# Altium footprint library IPC-SM-782 Section 14.1.2 PBGA 1.27mm.PcbLib: 49 footprints (part 3 of 11)
Each footprint in its own frame and in the unit in brackets; x right, y up, seen from the top. Pads: shape width x height; smd on the part's side, far side on the other; paste and mask are expansions set on the pad; w line width, h text height; cw(c..) or ccw(c..) is an arc to the next point about the centre after c.
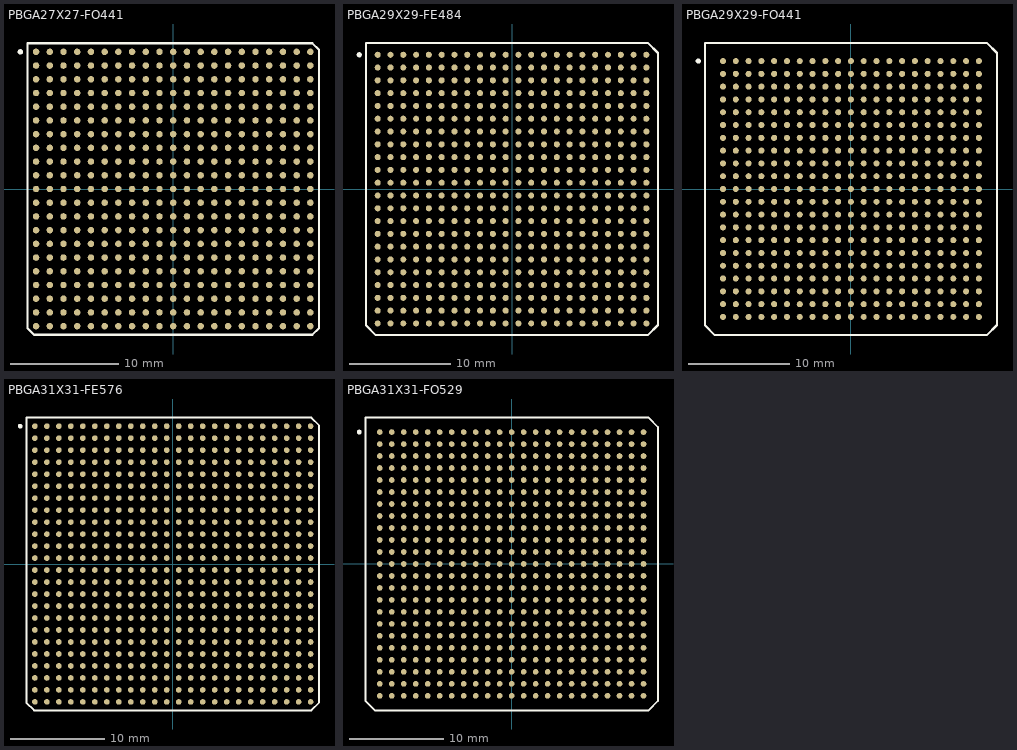
[diagram p2: the footprints below, top view; thin cyan lines are the x and y axes]

## PBGA27X27-FO441 [mm] "BGA; 441 Balls; Body 27 x 27 mm; Pitch 1.27 mm"
height 3.5
pads (441):
  round 0.6 smd: A1(-12.7,12.7) A2(-11.43,12.7) A3(-10.16,12.7) A4(-8.89,12.7) A5(-7.62,12.7) A6(-6.35,12.7) A7(-5.08,12.7) A8(-3.81,12.7) A9(-2.54,12.7) A10(-1.27,12.7) A11(0,12.7) A12(1.27,12.7) A13(2.54,12.7) A14(3.81,12.7) A15(5.08,12.7) A16(6.35,12.7) A17(7.62,12.7) A18(8.89,12.7) A19(10.16,12.7) A20(11.43,12.7) A21(12.7,12.7) AA1(-12.7,-12.7) AA2(-11.43,-12.7) AA3(-10.16,-12.7) AA4(-8.89,-12.7) AA5(-7.62,-12.7) AA6(-6.35,-12.7) AA7(-5.08,-12.7) AA8(-3.81,-12.7) AA9(-2.54,-12.7) AA10(-1.27,-12.7) AA11(0,-12.7) AA12(1.27,-12.7) AA13(2.54,-12.7) AA14(3.81,-12.7) AA15(5.08,-12.7) AA16(6.35,-12.7) AA17(7.62,-12.7) AA18(8.89,-12.7) AA19(10.16,-12.7) AA20(11.43,-12.7) AA21(12.7,-12.7) B1(-12.7,11.43) B2(-11.43,11.43) B3(-10.16,11.43) B4(-8.89,11.43) B5(-7.62,11.43) B6(-6.35,11.43) B7(-5.08,11.43) B8(-3.81,11.43) B9(-2.54,11.43) B10(-1.27,11.43) B11(0,11.43) B12(1.27,11.43) B13(2.54,11.43) B14(3.81,11.43) B15(5.08,11.43) B16(6.35,11.43) B17(7.62,11.43) B18(8.89,11.43) B19(10.16,11.43) B20(11.43,11.43) B21(12.7,11.43) C1(-12.7,10.16) C2(-11.43,10.16) C3(-10.16,10.16) C4(-8.89,10.16) C5(-7.62,10.16) C6(-6.35,10.16) C7(-5.08,10.16) C8(-3.81,10.16) C9(-2.54,10.16) C10(-1.27,10.16) C11(0,10.16) C12(1.27,10.16) C13(2.54,10.16) C14(3.81,10.16) C15(5.08,10.16) C16(6.35,10.16) C17(7.62,10.16) C18(8.89,10.16) C19(10.16,10.16) C20(11.43,10.16) C21(12.7,10.16) D1(-12.7,8.89) D2(-11.43,8.89) D3(-10.16,8.89) D4(-8.89,8.89) D5(-7.62,8.89) D6(-6.35,8.89) D7(-5.08,8.89) D8(-3.81,8.89) D9(-2.54,8.89) D10(-1.27,8.89) D11(0,8.89) D12(1.27,8.89) D13(2.54,8.89) D14(3.81,8.89) D15(5.08,8.89) D16(6.35,8.89) D17(7.62,8.89) D18(8.89,8.89) D19(10.16,8.89) D20(11.43,8.89) D21(12.7,8.89) E1(-12.7,7.62) E2(-11.43,7.62) E3(-10.16,7.62) E4(-8.89,7.62) E5(-7.62,7.62) E6(-6.35,7.62) E7(-5.08,7.62) E8(-3.81,7.62) E9(-2.54,7.62) E10(-1.27,7.62) E11(0,7.62) E12(1.27,7.62) E13(2.54,7.62) E14(3.81,7.62) E15(5.08,7.62) E16(6.35,7.62) E17(7.62,7.62) E18(8.89,7.62) E19(10.16,7.62) E20(11.43,7.62) E21(12.7,7.62) F1(-12.7,6.35) F2(-11.43,6.35) F3(-10.16,6.35) F4(-8.89,6.35) F5(-7.62,6.35) F6(-6.35,6.35) F7(-5.08,6.35) F8(-3.81,6.35) F9(-2.54,6.35) F10(-1.27,6.35) F11(0,6.35) F12(1.27,6.35) F13(2.54,6.35) F14(3.81,6.35) F15(5.08,6.35) F16(6.35,6.35) F17(7.62,6.35) F18(8.89,6.35) F19(10.16,6.35) F20(11.43,6.35) F21(12.7,6.35) G1(-12.7,5.08) G2(-11.43,5.08) G3(-10.16,5.08) G4(-8.89,5.08) G5(-7.62,5.08) G6(-6.35,5.08) G7(-5.08,5.08) G8(-3.81,5.08) G9(-2.54,5.08) G10(-1.27,5.08) G11(0,5.08) G12(1.27,5.08) G13(2.54,5.08) G14(3.81,5.08) G15(5.08,5.08) G16(6.35,5.08) G17(7.62,5.08) G18(8.89,5.08) G19(10.16,5.08) G20(11.43,5.08) G21(12.7,5.08) H1(-12.7,3.81) H2(-11.43,3.81) H3(-10.16,3.81) H4(-8.89,3.81) H5(-7.62,3.81) H6(-6.35,3.81) H7(-5.08,3.81) H8(-3.81,3.81) H9(-2.54,3.81) H10(-1.27,3.81) H11(0,3.81) H12(1.27,3.81) H13(2.54,3.81) H14(3.81,3.81) H15(5.08,3.81) H16(6.35,3.81) H17(7.62,3.81) H18(8.89,3.81) H19(10.16,3.81) H20(11.43,3.81) H21(12.7,3.81) J1(-12.7,2.54) J2(-11.43,2.54) J3(-10.16,2.54) J4(-8.89,2.54) J5(-7.62,2.54) J6(-6.35,2.54) J7(-5.08,2.54) J8(-3.81,2.54) J9(-2.54,2.54) J10(-1.27,2.54) J11(0,2.54) J12(1.27,2.54) J13(2.54,2.54) J14(3.81,2.54) J15(5.08,2.54) J16(6.35,2.54) J17(7.62,2.54) J18(8.89,2.54) J19(10.16,2.54) J20(11.43,2.54) J21(12.7,2.54) K1(-12.7,1.27) K2(-11.43,1.27) K3(-10.16,1.27) K4(-8.89,1.27) K5(-7.62,1.27) K6(-6.35,1.27) K7(-5.08,1.27) K8(-3.81,1.27) K9(-2.54,1.27) K10(-1.27,1.27) K11(0,1.27) K12(1.27,1.27) K13(2.54,1.27) K14(3.81,1.27) K15(5.08,1.27) K16(6.35,1.27) K17(7.62,1.27) K18(8.89,1.27) K19(10.16,1.27) K20(11.43,1.27) K21(12.7,1.27) L1(-12.7,0) L2(-11.43,0) L3(-10.16,0) L4(-8.89,0) L5(-7.62,0) L6(-6.35,0) L7(-5.08,0) L8(-3.81,0) L9(-2.54,0) L10(-1.27,0) L11(0,0) L12(1.27,0) L13(2.54,0) L14(3.81,0) L15(5.08,0) L16(6.35,0) L17(7.62,0) L18(8.89,0) L19(10.16,0) L20(11.43,0) L21(12.7,0) M1(-12.7,-1.27) M2(-11.43,-1.27) M3(-10.16,-1.27) M4(-8.89,-1.27) M5(-7.62,-1.27) M6(-6.35,-1.27) M7(-5.08,-1.27) M8(-3.81,-1.27) M9(-2.54,-1.27) M10(-1.27,-1.27) M11(0,-1.27) M12(1.27,-1.27) M13(2.54,-1.27) M14(3.81,-1.27) M15(5.08,-1.27) M16(6.35,-1.27) M17(7.62,-1.27) M18(8.89,-1.27) M19(10.16,-1.27) M20(11.43,-1.27) M21(12.7,-1.27) N1(-12.7,-2.54) N2(-11.43,-2.54) N3(-10.16,-2.54) N4(-8.89,-2.54) N5(-7.62,-2.54) N6(-6.35,-2.54) N7(-5.08,-2.54) N8(-3.81,-2.54) N9(-2.54,-2.54) N10(-1.27,-2.54) N11(0,-2.54) N12(1.27,-2.54) N13(2.54,-2.54) N14(3.81,-2.54) N15(5.08,-2.54) N16(6.35,-2.54) N17(7.62,-2.54) N18(8.89,-2.54) N19(10.16,-2.54) N20(11.43,-2.54) N21(12.7,-2.54) P1(-12.7,-3.81) P2(-11.43,-3.81) P3(-10.16,-3.81) P4(-8.89,-3.81) P5(-7.62,-3.81) P6(-6.35,-3.81) P7(-5.08,-3.81) P8(-3.81,-3.81) P9(-2.54,-3.81) P10(-1.27,-3.81) P11(0,-3.81) P12(1.27,-3.81) P13(2.54,-3.81) P14(3.81,-3.81) P15(5.08,-3.81) P16(6.35,-3.81) P17(7.62,-3.81) P18(8.89,-3.81) P19(10.16,-3.81) P20(11.43,-3.81) P21(12.7,-3.81) R1(-12.7,-5.08) R2(-11.43,-5.08) R3(-10.16,-5.08) R4(-8.89,-5.08) R5(-7.62,-5.08) R6(-6.35,-5.08) R7(-5.08,-5.08) R8(-3.81,-5.08) R9(-2.54,-5.08) R10(-1.27,-5.08) R11(0,-5.08) R12(1.27,-5.08) R13(2.54,-5.08) R14(3.81,-5.08) R15(5.08,-5.08) R16(6.35,-5.08) R17(7.62,-5.08) R18(8.89,-5.08) R19(10.16,-5.08) R20(11.43,-5.08) R21(12.7,-5.08) T1(-12.7,-6.35) T2(-11.43,-6.35) T3(-10.16,-6.35) T4(-8.89,-6.35) T5(-7.62,-6.35) T6(-6.35,-6.35) T7(-5.08,-6.35) T8(-3.81,-6.35) T9(-2.54,-6.35) T10(-1.27,-6.35) T11(0,-6.35) T12(1.27,-6.35) T13(2.54,-6.35) T14(3.81,-6.35) T15(5.08,-6.35) T16(6.35,-6.35) T17(7.62,-6.35) T18(8.89,-6.35) T19(10.16,-6.35) T20(11.43,-6.35) T21(12.7,-6.35) U1(-12.7,-7.62) U2(-11.43,-7.62) U3(-10.16,-7.62) U4(-8.89,-7.62) U5(-7.62,-7.62) U6(-6.35,-7.62) U7(-5.08,-7.62) U8(-3.81,-7.62) U9(-2.54,-7.62) U10(-1.27,-7.62) U11(0,-7.62) U12(1.27,-7.62) U13(2.54,-7.62) U14(3.81,-7.62) U15(5.08,-7.62) U16(6.35,-7.62) U17(7.62,-7.62) U18(8.89,-7.62) U19(10.16,-7.62) U20(11.43,-7.62) U21(12.7,-7.62) V1(-12.7,-8.89) V2(-11.43,-8.89) V3(-10.16,-8.89) V4(-8.89,-8.89) V5(-7.62,-8.89) V6(-6.35,-8.89) V7(-5.08,-8.89) V8(-3.81,-8.89) V9(-2.54,-8.89) V10(-1.27,-8.89) V11(0,-8.89) V12(1.27,-8.89) V13(2.54,-8.89) V14(3.81,-8.89) V15(5.08,-8.89) V16(6.35,-8.89) V17(7.62,-8.89) V18(8.89,-8.89) V19(10.16,-8.89) V20(11.43,-8.89) V21(12.7,-8.89) W1(-12.7,-10.16) W2(-11.43,-10.16) W3(-10.16,-10.16) W4(-8.89,-10.16) W5(-7.62,-10.16) W6(-6.35,-10.16) W7(-5.08,-10.16) W8(-3.81,-10.16) W9(-2.54,-10.16) W10(-1.27,-10.16) W11(0,-10.16) W12(1.27,-10.16) W13(2.54,-10.16) W14(3.81,-10.16) W15(5.08,-10.16) W16(6.35,-10.16) W17(7.62,-10.16) W18(8.89,-10.16) W19(10.16,-10.16) W20(11.43,-10.16) W21(12.7,-10.16) Y1(-12.7,-11.43) Y2(-11.43,-11.43) Y3(-10.16,-11.43) Y4(-8.89,-11.43) Y5(-7.62,-11.43) Y6(-6.35,-11.43) Y7(-5.08,-11.43) Y8(-3.81,-11.43) Y9(-2.54,-11.43) Y10(-1.27,-11.43) Y11(0,-11.43) Y12(1.27,-11.43) Y13(2.54,-11.43) Y14(3.81,-11.43) Y15(5.08,-11.43) Y16(6.35,-11.43) Y17(7.62,-11.43) Y18(8.89,-11.43) Y19(10.16,-11.43) Y20(11.43,-11.43) Y21(12.7,-11.43)
Top Overlay:
  circle w0.25: c-14.155,12.7 r0.125
  lines w0.2: -13.5,-12.89 -13.5,13.5 12.89,13.5 13.5,12.89 13.5,-12.89 12.89,-13.5 -12.89,-13.5 -13.5,-12.89

## PBGA29X29-FE484 [mm] "BGA; 484 Balls; Body 29 x 29 mm; Pitch 1.27 mm"
height 3.5
pads (484):
  round 0.6 smd: A1(-13.335,13.335) A2(-12.065,13.335) A3(-10.795,13.335) A4(-9.525,13.335) A5(-8.255,13.335) A6(-6.985,13.335) A7(-5.715,13.335) A8(-4.445,13.335) A9(-3.175,13.335) A10(-1.905,13.335) A11(-0.635,13.335) A12(0.635,13.335) A13(1.905,13.335) A14(3.175,13.335) A15(4.445,13.335) A16(5.715,13.335) A17(6.985,13.335) A18(8.255,13.335) A19(9.525,13.335) A20(10.795,13.335) A21(12.065,13.335) A22(13.335,13.335) AA1(-13.335,-12.065) AA2(-12.065,-12.065) AA3(-10.795,-12.065) AA4(-9.525,-12.065) AA5(-8.255,-12.065) AA6(-6.985,-12.065) AA7(-5.715,-12.065) AA8(-4.445,-12.065) AA9(-3.175,-12.065) AA10(-1.905,-12.065) AA11(-0.635,-12.065) AA12(0.635,-12.065) AA13(1.905,-12.065) AA14(3.175,-12.065) AA15(4.445,-12.065) AA16(5.715,-12.065) AA17(6.985,-12.065) AA18(8.255,-12.065) AA19(9.525,-12.065) AA20(10.795,-12.065) AA21(12.065,-12.065) AA22(13.335,-12.065) AB1(-13.335,-13.335) AB2(-12.065,-13.335) AB3(-10.795,-13.335) AB4(-9.525,-13.335) AB5(-8.255,-13.335) AB6(-6.985,-13.335) AB7(-5.715,-13.335) AB8(-4.445,-13.335) AB9(-3.175,-13.335) AB10(-1.905,-13.335) AB11(-0.635,-13.335) AB12(0.635,-13.335) AB13(1.905,-13.335) AB14(3.175,-13.335) AB15(4.445,-13.335) AB16(5.715,-13.335) AB17(6.985,-13.335) AB18(8.255,-13.335) AB19(9.525,-13.335) AB20(10.795,-13.335) AB21(12.065,-13.335) AB22(13.335,-13.335) B1(-13.335,12.065) B2(-12.065,12.065) B3(-10.795,12.065) B4(-9.525,12.065) B5(-8.255,12.065) B6(-6.985,12.065) B7(-5.715,12.065) B8(-4.445,12.065) B9(-3.175,12.065) B10(-1.905,12.065) B11(-0.635,12.065) B12(0.635,12.065) B13(1.905,12.065) B14(3.175,12.065) B15(4.445,12.065) B16(5.715,12.065) B17(6.985,12.065) B18(8.255,12.065) B19(9.525,12.065) B20(10.795,12.065) B21(12.065,12.065) B22(13.335,12.065) C1(-13.335,10.795) C2(-12.065,10.795) C3(-10.795,10.795) C4(-9.525,10.795) C5(-8.255,10.795) C6(-6.985,10.795) C7(-5.715,10.795) C8(-4.445,10.795) C9(-3.175,10.795) C10(-1.905,10.795) C11(-0.635,10.795) C12(0.635,10.795) C13(1.905,10.795) C14(3.175,10.795) C15(4.445,10.795) C16(5.715,10.795) C17(6.985,10.795) C18(8.255,10.795) C19(9.525,10.795) C20(10.795,10.795) C21(12.065,10.795) C22(13.335,10.795) D1(-13.335,9.525) D2(-12.065,9.525) D3(-10.795,9.525) D4(-9.525,9.525) D5(-8.255,9.525) D6(-6.985,9.525) D7(-5.715,9.525) D8(-4.445,9.525) D9(-3.175,9.525) D10(-1.905,9.525) D11(-0.635,9.525) D12(0.635,9.525) D13(1.905,9.525) D14(3.175,9.525) D15(4.445,9.525) D16(5.715,9.525) D17(6.985,9.525) D18(8.255,9.525) D19(9.525,9.525) D20(10.795,9.525) D21(12.065,9.525) D22(13.335,9.525) E1(-13.335,8.255) E2(-12.065,8.255) E3(-10.795,8.255) E4(-9.525,8.255) E5(-8.255,8.255) E6(-6.985,8.255) E7(-5.715,8.255) E8(-4.445,8.255) E9(-3.175,8.255) E10(-1.905,8.255) E11(-0.635,8.255) E12(0.635,8.255) E13(1.905,8.255) E14(3.175,8.255) E15(4.445,8.255) E16(5.715,8.255) E17(6.985,8.255) E18(8.255,8.255) E19(9.525,8.255) E20(10.795,8.255) E21(12.065,8.255) E22(13.335,8.255) F1(-13.335,6.985) F2(-12.065,6.985) F3(-10.795,6.985) F4(-9.525,6.985) F5(-8.255,6.985) F6(-6.985,6.985) F7(-5.715,6.985) F8(-4.445,6.985) F9(-3.175,6.985) F10(-1.905,6.985) F11(-0.635,6.985) F12(0.635,6.985) F13(1.905,6.985) F14(3.175,6.985) F15(4.445,6.985) F16(5.715,6.985) F17(6.985,6.985) F18(8.255,6.985) F19(9.525,6.985) F20(10.795,6.985) F21(12.065,6.985) F22(13.335,6.985) G1(-13.335,5.715) G2(-12.065,5.715) G3(-10.795,5.715) G4(-9.525,5.715) G5(-8.255,5.715) G6(-6.985,5.715) G7(-5.715,5.715) G8(-4.445,5.715) G9(-3.175,5.715) G10(-1.905,5.715) G11(-0.635,5.715) G12(0.635,5.715) G13(1.905,5.715) G14(3.175,5.715) G15(4.445,5.715) G16(5.715,5.715) G17(6.985,5.715) G18(8.255,5.715) G19(9.525,5.715) G20(10.795,5.715) G21(12.065,5.715) G22(13.335,5.715) H1(-13.335,4.445) H2(-12.065,4.445) H3(-10.795,4.445) H4(-9.525,4.445) H5(-8.255,4.445) H6(-6.985,4.445) H7(-5.715,4.445) H8(-4.445,4.445) H9(-3.175,4.445) H10(-1.905,4.445) H11(-0.635,4.445) H12(0.635,4.445) H13(1.905,4.445) H14(3.175,4.445) H15(4.445,4.445) H16(5.715,4.445) H17(6.985,4.445) H18(8.255,4.445) H19(9.525,4.445) H20(10.795,4.445) H21(12.065,4.445) H22(13.335,4.445) J1(-13.335,3.175) J2(-12.065,3.175) J3(-10.795,3.175) J4(-9.525,3.175) J5(-8.255,3.175) J6(-6.985,3.175) J7(-5.715,3.175) J8(-4.445,3.175) J9(-3.175,3.175) J10(-1.905,3.175) J11(-0.635,3.175) J12(0.635,3.175) J13(1.905,3.175) J14(3.175,3.175) J15(4.445,3.175) J16(5.715,3.175) J17(6.985,3.175) J18(8.255,3.175) J19(9.525,3.175) J20(10.795,3.175) J21(12.065,3.175) J22(13.335,3.175) K1(-13.335,1.905) K2(-12.065,1.905) K3(-10.795,1.905) K4(-9.525,1.905) K5(-8.255,1.905) K6(-6.985,1.905) K7(-5.715,1.905) K8(-4.445,1.905) K9(-3.175,1.905) K10(-1.905,1.905) K11(-0.635,1.905) K12(0.635,1.905) K13(1.905,1.905) K14(3.175,1.905) K15(4.445,1.905) K16(5.715,1.905) K17(6.985,1.905) K18(8.255,1.905) K19(9.525,1.905) K20(10.795,1.905) K21(12.065,1.905) K22(13.335,1.905) L1(-13.335,0.635) L2(-12.065,0.635) L3(-10.795,0.635) L4(-9.525,0.635) L5(-8.255,0.635) L6(-6.985,0.635) L7(-5.715,0.635) L8(-4.445,0.635) L9(-3.175,0.635) L10(-1.905,0.635) L11(-0.635,0.635) L12(0.635,0.635) L13(1.905,0.635) L14(3.175,0.635) L15(4.445,0.635) L16(5.715,0.635) L17(6.985,0.635) L18(8.255,0.635) L19(9.525,0.635) L20(10.795,0.635) L21(12.065,0.635) L22(13.335,0.635) M1(-13.335,-0.635) M2(-12.065,-0.635) M3(-10.795,-0.635) M4(-9.525,-0.635) M5(-8.255,-0.635) M6(-6.985,-0.635) M7(-5.715,-0.635) M8(-4.445,-0.635) M9(-3.175,-0.635) M10(-1.905,-0.635) M11(-0.635,-0.635) M12(0.635,-0.635) M13(1.905,-0.635) M14(3.175,-0.635) M15(4.445,-0.635) M16(5.715,-0.635) M17(6.985,-0.635) M18(8.255,-0.635) M19(9.525,-0.635) M20(10.795,-0.635) M21(12.065,-0.635) M22(13.335,-0.635) N1(-13.335,-1.905) N2(-12.065,-1.905) N3(-10.795,-1.905) N4(-9.525,-1.905) N5(-8.255,-1.905) N6(-6.985,-1.905) N7(-5.715,-1.905) N8(-4.445,-1.905) N9(-3.175,-1.905) N10(-1.905,-1.905) N11(-0.635,-1.905) N12(0.635,-1.905) N13(1.905,-1.905) N14(3.175,-1.905) N15(4.445,-1.905) N16(5.715,-1.905) N17(6.985,-1.905) N18(8.255,-1.905) N19(9.525,-1.905) N20(10.795,-1.905) N21(12.065,-1.905) N22(13.335,-1.905) P1(-13.335,-3.175) P2(-12.065,-3.175) P3(-10.795,-3.175) P4(-9.525,-3.175) P5(-8.255,-3.175) P6(-6.985,-3.175) P7(-5.715,-3.175) P8(-4.445,-3.175) P9(-3.175,-3.175) P10(-1.905,-3.175) P11(-0.635,-3.175) P12(0.635,-3.175) P13(1.905,-3.175) P14(3.175,-3.175) P15(4.445,-3.175) P16(5.715,-3.175) P17(6.985,-3.175) P18(8.255,-3.175) P19(9.525,-3.175) P20(10.795,-3.175) P21(12.065,-3.175) P22(13.335,-3.175) R1(-13.335,-4.445) R2(-12.065,-4.445) R3(-10.795,-4.445) R4(-9.525,-4.445) R5(-8.255,-4.445) R6(-6.985,-4.445) R7(-5.715,-4.445) R8(-4.445,-4.445) R9(-3.175,-4.445) R10(-1.905,-4.445) R11(-0.635,-4.445) R12(0.635,-4.445) R13(1.905,-4.445) R14(3.175,-4.445) R15(4.445,-4.445) R16(5.715,-4.445) R17(6.985,-4.445) R18(8.255,-4.445) R19(9.525,-4.445) R20(10.795,-4.445) R21(12.065,-4.445) R22(13.335,-4.445) T1(-13.335,-5.715) T2(-12.065,-5.715) T3(-10.795,-5.715) T4(-9.525,-5.715) T5(-8.255,-5.715) T6(-6.985,-5.715) T7(-5.715,-5.715) T8(-4.445,-5.715) T9(-3.175,-5.715) T10(-1.905,-5.715) T11(-0.635,-5.715) T12(0.635,-5.715) T13(1.905,-5.715) T14(3.175,-5.715) T15(4.445,-5.715) T16(5.715,-5.715) T17(6.985,-5.715) T18(8.255,-5.715) T19(9.525,-5.715) T20(10.795,-5.715) T21(12.065,-5.715) T22(13.335,-5.715) U1(-13.335,-6.985) U2(-12.065,-6.985) U3(-10.795,-6.985) U4(-9.525,-6.985) U5(-8.255,-6.985) U6(-6.985,-6.985) U7(-5.715,-6.985) U8(-4.445,-6.985) U9(-3.175,-6.985) U10(-1.905,-6.985) U11(-0.635,-6.985) U12(0.635,-6.985) U13(1.905,-6.985) U14(3.175,-6.985) U15(4.445,-6.985) U16(5.715,-6.985) U17(6.985,-6.985) U18(8.255,-6.985) U19(9.525,-6.985) U20(10.795,-6.985) U21(12.065,-6.985) U22(13.335,-6.985) V1(-13.335,-8.255) V2(-12.065,-8.255) V3(-10.795,-8.255) V4(-9.525,-8.255) V5(-8.255,-8.255) V6(-6.985,-8.255) V7(-5.715,-8.255) V8(-4.445,-8.255) V9(-3.175,-8.255) V10(-1.905,-8.255) V11(-0.635,-8.255) V12(0.635,-8.255) V13(1.905,-8.255) V14(3.175,-8.255) V15(4.445,-8.255) V16(5.715,-8.255) V17(6.985,-8.255) V18(8.255,-8.255) V19(9.525,-8.255) V20(10.795,-8.255) V21(12.065,-8.255) V22(13.335,-8.255) W1(-13.335,-9.525) W2(-12.065,-9.525) W3(-10.795,-9.525) W4(-9.525,-9.525) W5(-8.255,-9.525) W6(-6.985,-9.525) W7(-5.715,-9.525) W8(-4.445,-9.525) W9(-3.175,-9.525) W10(-1.905,-9.525) W11(-0.635,-9.525) W12(0.635,-9.525) W13(1.905,-9.525) W14(3.175,-9.525) W15(4.445,-9.525) W16(5.715,-9.525) W17(6.985,-9.525) W18(8.255,-9.525) W19(9.525,-9.525) W20(10.795,-9.525) W21(12.065,-9.525) W22(13.335,-9.525) Y1(-13.335,-10.795) Y2(-12.065,-10.795) Y3(-10.795,-10.795) Y4(-9.525,-10.795) Y5(-8.255,-10.795) Y6(-6.985,-10.795) Y7(-5.715,-10.795) Y8(-4.445,-10.795) Y9(-3.175,-10.795) Y10(-1.905,-10.795) Y11(-0.635,-10.795) Y12(0.635,-10.795) Y13(1.905,-10.795) Y14(3.175,-10.795) Y15(4.445,-10.795) Y16(5.715,-10.795) Y17(6.985,-10.795) Y18(8.255,-10.795) Y19(9.525,-10.795) Y20(10.795,-10.795) Y21(12.065,-10.795) Y22(13.335,-10.795)
Top Overlay:
  circle w0.25: c-15.165,13.335 r0.125
  lines w0.2: -14.51,-13.49 -14.51,14.51 13.49,14.51 14.49,13.51 14.49,-13.49 13.49,-14.49 -13.51,-14.49 -14.51,-13.49

## PBGA29X29-FO441 [mm] "BGA; 441 Balls; Body 29 x 29 mm; Pitch 1.27 mm"
height 3.5
pads (441):
  round 0.6 smd: A1(-12.7,12.7) A2(-11.43,12.7) A3(-10.16,12.7) A4(-8.89,12.7) A5(-7.62,12.7) A6(-6.35,12.7) A7(-5.08,12.7) A8(-3.81,12.7) A9(-2.54,12.7) A10(-1.27,12.7) A11(0,12.7) A12(1.27,12.7) A13(2.54,12.7) A14(3.81,12.7) A15(5.08,12.7) A16(6.35,12.7) A17(7.62,12.7) A18(8.89,12.7) A19(10.16,12.7) A20(11.43,12.7) A21(12.7,12.7) AA1(-12.7,-12.7) AA2(-11.43,-12.7) AA3(-10.16,-12.7) AA4(-8.89,-12.7) AA5(-7.62,-12.7) AA6(-6.35,-12.7) AA7(-5.08,-12.7) AA8(-3.81,-12.7) AA9(-2.54,-12.7) AA10(-1.27,-12.7) AA11(0,-12.7) AA12(1.27,-12.7) AA13(2.54,-12.7) AA14(3.81,-12.7) AA15(5.08,-12.7) AA16(6.35,-12.7) AA17(7.62,-12.7) AA18(8.89,-12.7) AA19(10.16,-12.7) AA20(11.43,-12.7) AA21(12.7,-12.7) B1(-12.7,11.43) B2(-11.43,11.43) B3(-10.16,11.43) B4(-8.89,11.43) B5(-7.62,11.43) B6(-6.35,11.43) B7(-5.08,11.43) B8(-3.81,11.43) B9(-2.54,11.43) B10(-1.27,11.43) B11(0,11.43) B12(1.27,11.43) B13(2.54,11.43) B14(3.81,11.43) B15(5.08,11.43) B16(6.35,11.43) B17(7.62,11.43) B18(8.89,11.43) B19(10.16,11.43) B20(11.43,11.43) B21(12.7,11.43) C1(-12.7,10.16) C2(-11.43,10.16) C3(-10.16,10.16) C4(-8.89,10.16) C5(-7.62,10.16) C6(-6.35,10.16) C7(-5.08,10.16) C8(-3.81,10.16) C9(-2.54,10.16) C10(-1.27,10.16) C11(0,10.16) C12(1.27,10.16) C13(2.54,10.16) C14(3.81,10.16) C15(5.08,10.16) C16(6.35,10.16) C17(7.62,10.16) C18(8.89,10.16) C19(10.16,10.16) C20(11.43,10.16) C21(12.7,10.16) D1(-12.7,8.89) D2(-11.43,8.89) D3(-10.16,8.89) D4(-8.89,8.89) D5(-7.62,8.89) D6(-6.35,8.89) D7(-5.08,8.89) D8(-3.81,8.89) D9(-2.54,8.89) D10(-1.27,8.89) D11(0,8.89) D12(1.27,8.89) D13(2.54,8.89) D14(3.81,8.89) D15(5.08,8.89) D16(6.35,8.89) D17(7.62,8.89) D18(8.89,8.89) D19(10.16,8.89) D20(11.43,8.89) D21(12.7,8.89) E1(-12.7,7.62) E2(-11.43,7.62) E3(-10.16,7.62) E4(-8.89,7.62) E5(-7.62,7.62) E6(-6.35,7.62) E7(-5.08,7.62) E8(-3.81,7.62) E9(-2.54,7.62) E10(-1.27,7.62) E11(0,7.62) E12(1.27,7.62) E13(2.54,7.62) E14(3.81,7.62) E15(5.08,7.62) E16(6.35,7.62) E17(7.62,7.62) E18(8.89,7.62) E19(10.16,7.62) E20(11.43,7.62) E21(12.7,7.62) F1(-12.7,6.35) F2(-11.43,6.35) F3(-10.16,6.35) F4(-8.89,6.35) F5(-7.62,6.35) F6(-6.35,6.35) F7(-5.08,6.35) F8(-3.81,6.35) F9(-2.54,6.35) F10(-1.27,6.35) F11(0,6.35) F12(1.27,6.35) F13(2.54,6.35) F14(3.81,6.35) F15(5.08,6.35) F16(6.35,6.35) F17(7.62,6.35) F18(8.89,6.35) F19(10.16,6.35) F20(11.43,6.35) F21(12.7,6.35) G1(-12.7,5.08) G2(-11.43,5.08) G3(-10.16,5.08) G4(-8.89,5.08) G5(-7.62,5.08) G6(-6.35,5.08) G7(-5.08,5.08) G8(-3.81,5.08) G9(-2.54,5.08) G10(-1.27,5.08) G11(0,5.08) G12(1.27,5.08) G13(2.54,5.08) G14(3.81,5.08) G15(5.08,5.08) G16(6.35,5.08) G17(7.62,5.08) G18(8.89,5.08) G19(10.16,5.08) G20(11.43,5.08) G21(12.7,5.08) H1(-12.7,3.81) H2(-11.43,3.81) H3(-10.16,3.81) H4(-8.89,3.81) H5(-7.62,3.81) H6(-6.35,3.81) H7(-5.08,3.81) H8(-3.81,3.81) H9(-2.54,3.81) H10(-1.27,3.81) H11(0,3.81) H12(1.27,3.81) H13(2.54,3.81) H14(3.81,3.81) H15(5.08,3.81) H16(6.35,3.81) H17(7.62,3.81) H18(8.89,3.81) H19(10.16,3.81) H20(11.43,3.81) H21(12.7,3.81) J1(-12.7,2.54) J2(-11.43,2.54) J3(-10.16,2.54) J4(-8.89,2.54) J5(-7.62,2.54) J6(-6.35,2.54) J7(-5.08,2.54) J8(-3.81,2.54) J9(-2.54,2.54) J10(-1.27,2.54) J11(0,2.54) J12(1.27,2.54) J13(2.54,2.54) J14(3.81,2.54) J15(5.08,2.54) J16(6.35,2.54) J17(7.62,2.54) J18(8.89,2.54) J19(10.16,2.54) J20(11.43,2.54) J21(12.7,2.54) K1(-12.7,1.27) K2(-11.43,1.27) K3(-10.16,1.27) K4(-8.89,1.27) K5(-7.62,1.27) K6(-6.35,1.27) K7(-5.08,1.27) K8(-3.81,1.27) K9(-2.54,1.27) K10(-1.27,1.27) K11(0,1.27) K12(1.27,1.27) K13(2.54,1.27) K14(3.81,1.27) K15(5.08,1.27) K16(6.35,1.27) K17(7.62,1.27) K18(8.89,1.27) K19(10.16,1.27) K20(11.43,1.27) K21(12.7,1.27) L1(-12.7,0) L2(-11.43,0) L3(-10.16,0) L4(-8.89,0) L5(-7.62,0) L6(-6.35,0) L7(-5.08,0) L8(-3.81,0) L9(-2.54,0) L10(-1.27,0) L11(0,0) L12(1.27,0) L13(2.54,0) L14(3.81,0) L15(5.08,0) L16(6.35,0) L17(7.62,0) L18(8.89,0) L19(10.16,0) L20(11.43,0) L21(12.7,0) M1(-12.7,-1.27) M2(-11.43,-1.27) M3(-10.16,-1.27) M4(-8.89,-1.27) M5(-7.62,-1.27) M6(-6.35,-1.27) M7(-5.08,-1.27) M8(-3.81,-1.27) M9(-2.54,-1.27) M10(-1.27,-1.27) M11(0,-1.27) M12(1.27,-1.27) M13(2.54,-1.27) M14(3.81,-1.27) M15(5.08,-1.27) M16(6.35,-1.27) M17(7.62,-1.27) M18(8.89,-1.27) M19(10.16,-1.27) M20(11.43,-1.27) M21(12.7,-1.27) N1(-12.7,-2.54) N2(-11.43,-2.54) N3(-10.16,-2.54) N4(-8.89,-2.54) N5(-7.62,-2.54) N6(-6.35,-2.54) N7(-5.08,-2.54) N8(-3.81,-2.54) N9(-2.54,-2.54) N10(-1.27,-2.54) N11(0,-2.54) N12(1.27,-2.54) N13(2.54,-2.54) N14(3.81,-2.54) N15(5.08,-2.54) N16(6.35,-2.54) N17(7.62,-2.54) N18(8.89,-2.54) N19(10.16,-2.54) N20(11.43,-2.54) N21(12.7,-2.54) P1(-12.7,-3.81) P2(-11.43,-3.81) P3(-10.16,-3.81) P4(-8.89,-3.81) P5(-7.62,-3.81) P6(-6.35,-3.81) P7(-5.08,-3.81) P8(-3.81,-3.81) P9(-2.54,-3.81) P10(-1.27,-3.81) P11(0,-3.81) P12(1.27,-3.81) P13(2.54,-3.81) P14(3.81,-3.81) P15(5.08,-3.81) P16(6.35,-3.81) P17(7.62,-3.81) P18(8.89,-3.81) P19(10.16,-3.81) P20(11.43,-3.81) P21(12.7,-3.81) R1(-12.7,-5.08) R2(-11.43,-5.08) R3(-10.16,-5.08) R4(-8.89,-5.08) R5(-7.62,-5.08) R6(-6.35,-5.08) R7(-5.08,-5.08) R8(-3.81,-5.08) R9(-2.54,-5.08) R10(-1.27,-5.08) R11(0,-5.08) R12(1.27,-5.08) R13(2.54,-5.08) R14(3.81,-5.08) R15(5.08,-5.08) R16(6.35,-5.08) R17(7.62,-5.08) R18(8.89,-5.08) R19(10.16,-5.08) R20(11.43,-5.08) R21(12.7,-5.08) T1(-12.7,-6.35) T2(-11.43,-6.35) T3(-10.16,-6.35) T4(-8.89,-6.35) T5(-7.62,-6.35) T6(-6.35,-6.35) T7(-5.08,-6.35) T8(-3.81,-6.35) T9(-2.54,-6.35) T10(-1.27,-6.35) T11(0,-6.35) T12(1.27,-6.35) T13(2.54,-6.35) T14(3.81,-6.35) T15(5.08,-6.35) T16(6.35,-6.35) T17(7.62,-6.35) T18(8.89,-6.35) T19(10.16,-6.35) T20(11.43,-6.35) T21(12.7,-6.35) U1(-12.7,-7.62) U2(-11.43,-7.62) U3(-10.16,-7.62) U4(-8.89,-7.62) U5(-7.62,-7.62) U6(-6.35,-7.62) U7(-5.08,-7.62) U8(-3.81,-7.62) U9(-2.54,-7.62) U10(-1.27,-7.62) U11(0,-7.62) U12(1.27,-7.62) U13(2.54,-7.62) U14(3.81,-7.62) U15(5.08,-7.62) U16(6.35,-7.62) U17(7.62,-7.62) U18(8.89,-7.62) U19(10.16,-7.62) U20(11.43,-7.62) U21(12.7,-7.62) V1(-12.7,-8.89) V2(-11.43,-8.89) V3(-10.16,-8.89) V4(-8.89,-8.89) V5(-7.62,-8.89) V6(-6.35,-8.89) V7(-5.08,-8.89) V8(-3.81,-8.89) V9(-2.54,-8.89) V10(-1.27,-8.89) V11(0,-8.89) V12(1.27,-8.89) V13(2.54,-8.89) V14(3.81,-8.89) V15(5.08,-8.89) V16(6.35,-8.89) V17(7.62,-8.89) V18(8.89,-8.89) V19(10.16,-8.89) V20(11.43,-8.89) V21(12.7,-8.89) W1(-12.7,-10.16) W2(-11.43,-10.16) W3(-10.16,-10.16) W4(-8.89,-10.16) W5(-7.62,-10.16) W6(-6.35,-10.16) W7(-5.08,-10.16) W8(-3.81,-10.16) W9(-2.54,-10.16) W10(-1.27,-10.16) W11(0,-10.16) W12(1.27,-10.16) W13(2.54,-10.16) W14(3.81,-10.16) W15(5.08,-10.16) W16(6.35,-10.16) W17(7.62,-10.16) W18(8.89,-10.16) W19(10.16,-10.16) W20(11.43,-10.16) W21(12.7,-10.16) Y1(-12.7,-11.43) Y2(-11.43,-11.43) Y3(-10.16,-11.43) Y4(-8.89,-11.43) Y5(-7.62,-11.43) Y6(-6.35,-11.43) Y7(-5.08,-11.43) Y8(-3.81,-11.43) Y9(-2.54,-11.43) Y10(-1.27,-11.43) Y11(0,-11.43) Y12(1.27,-11.43) Y13(2.54,-11.43) Y14(3.81,-11.43) Y15(5.08,-11.43) Y16(6.35,-11.43) Y17(7.62,-11.43) Y18(8.89,-11.43) Y19(10.16,-11.43) Y20(11.43,-11.43) Y21(12.7,-11.43)
Top Overlay:
  circle w0.25: c-15.155,12.7 r0.125
  lines w0.2: -14.5,-13.5 -13.5,-14.5 13.5,-14.5 14.5,-13.5 14.5,13.5 13.5,14.5 -14.5,14.5 -14.5,-13.5

## PBGA31X31-FE576 [mm] "BGA; 576 Balls; Body 31 x 31 mm; Pitch 1.27 mm"
height 3.5
pads (576):
  round 0.6 smd: A1(-14.605,14.605) A2(-13.335,14.605) A3(-12.065,14.605) A4(-10.795,14.605) A5(-9.525,14.605) A6(-8.255,14.605) A7(-6.985,14.605) A8(-5.715,14.605) A9(-4.445,14.605) A10(-3.175,14.605) A11(-1.905,14.605) A12(-0.635,14.605) A13(0.635,14.605) A14(1.905,14.605) A15(3.175,14.605) A16(4.445,14.605) A17(5.715,14.605) A18(6.985,14.605) A19(8.255,14.605) A20(9.525,14.605) A21(10.795,14.605) A22(12.065,14.605) A23(13.335,14.605) A24(14.605,14.605) AA1(-14.605,-10.795) AA2(-13.335,-10.795) AA3(-12.065,-10.795) AA4(-10.795,-10.795) AA5(-9.525,-10.795) AA6(-8.255,-10.795) AA7(-6.985,-10.795) AA8(-5.715,-10.795) AA9(-4.445,-10.795) AA10(-3.175,-10.795) AA11(-1.905,-10.795) AA12(-0.635,-10.795) AA13(0.635,-10.795) AA14(1.905,-10.795) AA15(3.175,-10.795) AA16(4.445,-10.795) AA17(5.715,-10.795) AA18(6.985,-10.795) AA19(8.255,-10.795) AA20(9.525,-10.795) AA21(10.795,-10.795) AA22(12.065,-10.795) AA23(13.335,-10.795) AA24(14.605,-10.795) AB1(-14.605,-12.065) AB2(-13.335,-12.065) AB3(-12.065,-12.065) AB4(-10.795,-12.065) AB5(-9.525,-12.065) AB6(-8.255,-12.065) AB7(-6.985,-12.065) AB8(-5.715,-12.065) AB9(-4.445,-12.065) AB10(-3.175,-12.065) AB11(-1.905,-12.065) AB12(-0.635,-12.065) AB13(0.635,-12.065) AB14(1.905,-12.065) AB15(3.175,-12.065) AB16(4.445,-12.065) AB17(5.715,-12.065) AB18(6.985,-12.065) AB19(8.255,-12.065) AB20(9.525,-12.065) AB21(10.795,-12.065) AB22(12.065,-12.065) AB23(13.335,-12.065) AB24(14.605,-12.065) AC1(-14.605,-13.335) AC2(-13.335,-13.335) AC3(-12.065,-13.335) AC4(-10.795,-13.335) AC5(-9.525,-13.335) AC6(-8.255,-13.335) AC7(-6.985,-13.335) AC8(-5.715,-13.335) AC9(-4.445,-13.335) AC10(-3.175,-13.335) AC11(-1.905,-13.335) AC12(-0.635,-13.335) AC13(0.635,-13.335) AC14(1.905,-13.335) AC15(3.175,-13.335) AC16(4.445,-13.335) AC17(5.715,-13.335) AC18(6.985,-13.335) AC19(8.255,-13.335) AC20(9.525,-13.335) AC21(10.795,-13.335) AC22(12.065,-13.335) AC23(13.335,-13.335) AC24(14.605,-13.335) AD1(-14.605,-14.605) AD2(-13.335,-14.605) AD3(-12.065,-14.605) AD4(-10.795,-14.605) AD5(-9.525,-14.605) AD6(-8.255,-14.605) AD7(-6.985,-14.605) AD8(-5.715,-14.605) AD9(-4.445,-14.605) AD10(-3.175,-14.605) AD11(-1.905,-14.605) AD12(-0.635,-14.605) AD13(0.635,-14.605) AD14(1.905,-14.605) AD15(3.175,-14.605) AD16(4.445,-14.605) AD17(5.715,-14.605) AD18(6.985,-14.605) AD19(8.255,-14.605) AD20(9.525,-14.605) AD21(10.795,-14.605) AD22(12.065,-14.605) AD23(13.335,-14.605) AD24(14.605,-14.605) B1(-14.605,13.335) B2(-13.335,13.335) B3(-12.065,13.335) B4(-10.795,13.335) B5(-9.525,13.335) B6(-8.255,13.335) B7(-6.985,13.335) B8(-5.715,13.335) B9(-4.445,13.335) B10(-3.175,13.335) B11(-1.905,13.335) B12(-0.635,13.335) B13(0.635,13.335) B14(1.905,13.335) B15(3.175,13.335) B16(4.445,13.335) B17(5.715,13.335) B18(6.985,13.335) B19(8.255,13.335) B20(9.525,13.335) B21(10.795,13.335) B22(12.065,13.335) B23(13.335,13.335) B24(14.605,13.335) C1(-14.605,12.065) C2(-13.335,12.065) C3(-12.065,12.065) C4(-10.795,12.065) C5(-9.525,12.065) C6(-8.255,12.065) C7(-6.985,12.065) C8(-5.715,12.065) C9(-4.445,12.065) C10(-3.175,12.065) C11(-1.905,12.065) C12(-0.635,12.065) C13(0.635,12.065) C14(1.905,12.065) C15(3.175,12.065) C16(4.445,12.065) C17(5.715,12.065) C18(6.985,12.065) C19(8.255,12.065) C20(9.525,12.065) C21(10.795,12.065) C22(12.065,12.065) C23(13.335,12.065) C24(14.605,12.065) D1(-14.605,10.795) D2(-13.335,10.795) D3(-12.065,10.795) D4(-10.795,10.795) D5(-9.525,10.795) D6(-8.255,10.795) D7(-6.985,10.795) D8(-5.715,10.795) D9(-4.445,10.795) D10(-3.175,10.795) D11(-1.905,10.795) D12(-0.635,10.795) D13(0.635,10.795) D14(1.905,10.795) D15(3.175,10.795) D16(4.445,10.795) D17(5.715,10.795) D18(6.985,10.795) D19(8.255,10.795) D20(9.525,10.795) D21(10.795,10.795) D22(12.065,10.795) D23(13.335,10.795) D24(14.605,10.795) E1(-14.605,9.525) E2(-13.335,9.525) E3(-12.065,9.525) E4(-10.795,9.525) E5(-9.525,9.525) E6(-8.255,9.525) E7(-6.985,9.525) E8(-5.715,9.525) E9(-4.445,9.525) E10(-3.175,9.525) E11(-1.905,9.525) E12(-0.635,9.525) E13(0.635,9.525) E14(1.905,9.525) E15(3.175,9.525) E16(4.445,9.525) E17(5.715,9.525) E18(6.985,9.525) E19(8.255,9.525) E20(9.525,9.525) E21(10.795,9.525) E22(12.065,9.525) E23(13.335,9.525) E24(14.605,9.525) F1(-14.605,8.255) F2(-13.335,8.255) F3(-12.065,8.255) F4(-10.795,8.255) F5(-9.525,8.255) F6(-8.255,8.255) F7(-6.985,8.255) F8(-5.715,8.255) F9(-4.445,8.255) F10(-3.175,8.255) F11(-1.905,8.255) F12(-0.635,8.255) F13(0.635,8.255) F14(1.905,8.255) F15(3.175,8.255) F16(4.445,8.255) F17(5.715,8.255) F18(6.985,8.255) F19(8.255,8.255) F20(9.525,8.255) F21(10.795,8.255) F22(12.065,8.255) F23(13.335,8.255) F24(14.605,8.255) G1(-14.605,6.985) G2(-13.335,6.985) G3(-12.065,6.985) G4(-10.795,6.985) G5(-9.525,6.985) G6(-8.255,6.985) G7(-6.985,6.985) G8(-5.715,6.985) G9(-4.445,6.985) G10(-3.175,6.985) G11(-1.905,6.985) G12(-0.635,6.985) G13(0.635,6.985) G14(1.905,6.985) G15(3.175,6.985) G16(4.445,6.985) G17(5.715,6.985) G18(6.985,6.985) G19(8.255,6.985) G20(9.525,6.985) G21(10.795,6.985) G22(12.065,6.985) G23(13.335,6.985) G24(14.605,6.985) H1(-14.605,5.715) H2(-13.335,5.715) H3(-12.065,5.715) H4(-10.795,5.715) H5(-9.525,5.715) H6(-8.255,5.715) H7(-6.985,5.715) H8(-5.715,5.715) H9(-4.445,5.715) H10(-3.175,5.715) H11(-1.905,5.715) H12(-0.635,5.715) H13(0.635,5.715) H14(1.905,5.715) H15(3.175,5.715) H16(4.445,5.715) H17(5.715,5.715) H18(6.985,5.715) H19(8.255,5.715) H20(9.525,5.715) H21(10.795,5.715) H22(12.065,5.715) H23(13.335,5.715) H24(14.605,5.715) J1(-14.605,4.445) J2(-13.335,4.445) J3(-12.065,4.445) J4(-10.795,4.445) J5(-9.525,4.445) J6(-8.255,4.445) J7(-6.985,4.445) J8(-5.715,4.445) J9(-4.445,4.445) J10(-3.175,4.445) J11(-1.905,4.445) J12(-0.635,4.445) J13(0.635,4.445) J14(1.905,4.445) J15(3.175,4.445) J16(4.445,4.445) J17(5.715,4.445) J18(6.985,4.445) J19(8.255,4.445) J20(9.525,4.445) J21(10.795,4.445) J22(12.065,4.445) J23(13.335,4.445) J24(14.605,4.445) K1(-14.605,3.175) K2(-13.335,3.175) K3(-12.065,3.175) K4(-10.795,3.175) K5(-9.525,3.175) K6(-8.255,3.175) K7(-6.985,3.175) K8(-5.715,3.175) K9(-4.445,3.175) K10(-3.175,3.175) K11(-1.905,3.175) K12(-0.635,3.175) K13(0.635,3.175) K14(1.905,3.175) K15(3.175,3.175) K16(4.445,3.175) K17(5.715,3.175) K18(6.985,3.175) K19(8.255,3.175) K20(9.525,3.175) K21(10.795,3.175) K22(12.065,3.175) K23(13.335,3.175) K24(14.605,3.175) L1(-14.605,1.905) L2(-13.335,1.905) L3(-12.065,1.905) L4(-10.795,1.905) L5(-9.525,1.905) L6(-8.255,1.905) L7(-6.985,1.905) L8(-5.715,1.905) L9(-4.445,1.905) L10(-3.175,1.905) L11(-1.905,1.905) L12(-0.635,1.905) L13(0.635,1.905) L14(1.905,1.905) L15(3.175,1.905) L16(4.445,1.905) L17(5.715,1.905) L18(6.985,1.905) L19(8.255,1.905) L20(9.525,1.905) L21(10.795,1.905) L22(12.065,1.905) L23(13.335,1.905) L24(14.605,1.905) M1(-14.605,0.635) M2(-13.335,0.635) M3(-12.065,0.635) M4(-10.795,0.635) M5(-9.525,0.635) M6(-8.255,0.635) M7(-6.985,0.635) M8(-5.715,0.635) M9(-4.445,0.635) M10(-3.175,0.635) M11(-1.905,0.635) M12(-0.635,0.635) M13(0.635,0.635) M14(1.905,0.635) M15(3.175,0.635) M16(4.445,0.635) M17(5.715,0.635) M18(6.985,0.635) M19(8.255,0.635) M20(9.525,0.635) M21(10.795,0.635) M22(12.065,0.635) M23(13.335,0.635) M24(14.605,0.635) N1(-14.605,-0.635) N2(-13.335,-0.635) N3(-12.065,-0.635) N4(-10.795,-0.635) N5(-9.525,-0.635) N6(-8.255,-0.635) N7(-6.985,-0.635) N8(-5.715,-0.635) N9(-4.445,-0.635) N10(-3.175,-0.635) N11(-1.905,-0.635) N12(-0.635,-0.635) N13(0.635,-0.635) N14(1.905,-0.635) N15(3.175,-0.635) N16(4.445,-0.635) N17(5.715,-0.635) N18(6.985,-0.635) N19(8.255,-0.635) N20(9.525,-0.635) N21(10.795,-0.635) N22(12.065,-0.635) N23(13.335,-0.635) N24(14.605,-0.635) P1(-14.605,-1.905) P2(-13.335,-1.905) P3(-12.065,-1.905) P4(-10.795,-1.905) P5(-9.525,-1.905) P6(-8.255,-1.905) P7(-6.985,-1.905) P8(-5.715,-1.905) P9(-4.445,-1.905) P10(-3.175,-1.905) P11(-1.905,-1.905) P12(-0.635,-1.905) P13(0.635,-1.905) P14(1.905,-1.905) P15(3.175,-1.905) P16(4.445,-1.905) P17(5.715,-1.905) P18(6.985,-1.905) P19(8.255,-1.905) P20(9.525,-1.905) P21(10.795,-1.905) P22(12.065,-1.905) P23(13.335,-1.905) P24(14.605,-1.905) R1(-14.605,-3.175) R2(-13.335,-3.175) R3(-12.065,-3.175) R4(-10.795,-3.175) R5(-9.525,-3.175) R6(-8.255,-3.175) R7(-6.985,-3.175) R8(-5.715,-3.175) R9(-4.445,-3.175) R10(-3.175,-3.175) R11(-1.905,-3.175) R12(-0.635,-3.175) R13(0.635,-3.175) R14(1.905,-3.175) R15(3.175,-3.175) R16(4.445,-3.175) R17(5.715,-3.175) R18(6.985,-3.175) R19(8.255,-3.175) R20(9.525,-3.175) R21(10.795,-3.175) R22(12.065,-3.175) R23(13.335,-3.175) R24(14.605,-3.175) T1(-14.605,-4.445) T2(-13.335,-4.445) T3(-12.065,-4.445) T4(-10.795,-4.445) T5(-9.525,-4.445) T6(-8.255,-4.445) T7(-6.985,-4.445) T8(-5.715,-4.445) T9(-4.445,-4.445) T10(-3.175,-4.445) T11(-1.905,-4.445) T12(-0.635,-4.445) T13(0.635,-4.445) T14(1.905,-4.445) T15(3.175,-4.445) T16(4.445,-4.445) T17(5.715,-4.445) T18(6.985,-4.445) T19(8.255,-4.445) T20(9.525,-4.445) T21(10.795,-4.445) T22(12.065,-4.445) T23(13.335,-4.445) T24(14.605,-4.445) U1(-14.605,-5.715) U2(-13.335,-5.715) U3(-12.065,-5.715) U4(-10.795,-5.715) U5(-9.525,-5.715) U6(-8.255,-5.715) U7(-6.985,-5.715) U8(-5.715,-5.715) U9(-4.445,-5.715) U10(-3.175,-5.715) U11(-1.905,-5.715) U12(-0.635,-5.715) U13(0.635,-5.715) U14(1.905,-5.715) U15(3.175,-5.715) U16(4.445,-5.715) U17(5.715,-5.715) U18(6.985,-5.715) U19(8.255,-5.715) U20(9.525,-5.715) U21(10.795,-5.715) U22(12.065,-5.715) U23(13.335,-5.715) U24(14.605,-5.715) V1(-14.605,-6.985) V2(-13.335,-6.985) V3(-12.065,-6.985) V4(-10.795,-6.985) V5(-9.525,-6.985) V6(-8.255,-6.985) V7(-6.985,-6.985) V8(-5.715,-6.985) V9(-4.445,-6.985) V10(-3.175,-6.985) V11(-1.905,-6.985) V12(-0.635,-6.985) V13(0.635,-6.985) V14(1.905,-6.985) V15(3.175,-6.985) V16(4.445,-6.985) V17(5.715,-6.985) V18(6.985,-6.985) V19(8.255,-6.985) V20(9.525,-6.985) V21(10.795,-6.985) V22(12.065,-6.985) V23(13.335,-6.985) V24(14.605,-6.985) W1(-14.605,-8.255) W2(-13.335,-8.255) W3(-12.065,-8.255) W4(-10.795,-8.255) W5(-9.525,-8.255) W6(-8.255,-8.255) W7(-6.985,-8.255) W8(-5.715,-8.255) W9(-4.445,-8.255) W10(-3.175,-8.255) W11(-1.905,-8.255) W12(-0.635,-8.255) W13(0.635,-8.255) W14(1.905,-8.255) W15(3.175,-8.255) W16(4.445,-8.255) W17(5.715,-8.255) W18(6.985,-8.255) W19(8.255,-8.255) W20(9.525,-8.255) W21(10.795,-8.255) W22(12.065,-8.255) W23(13.335,-8.255) W24(14.605,-8.255) Y1(-14.605,-9.525) Y2(-13.335,-9.525) Y3(-12.065,-9.525) Y4(-10.795,-9.525) Y5(-9.525,-9.525) Y6(-8.255,-9.525) Y7(-6.985,-9.525) Y8(-5.715,-9.525) Y9(-4.445,-9.525) Y10(-3.175,-9.525) Y11(-1.905,-9.525) Y12(-0.635,-9.525) Y13(0.635,-9.525) Y14(1.905,-9.525) Y15(3.175,-9.525) Y16(4.445,-9.525) Y17(5.715,-9.525) Y18(6.985,-9.525) Y19(8.255,-9.525) Y20(9.525,-9.525) Y21(10.795,-9.525) Y22(12.065,-9.525) Y23(13.335,-9.525) Y24(14.605,-9.525)
Top Overlay:
  circle w0.25: c-16.16,14.605 r0.125
  lines w0.2: -15.505,-14.685 -15.505,15.505 14.685,15.505 15.495,14.695 15.495,-14.685 14.685,-15.495 -14.695,-15.495 -15.505,-14.685

## PBGA31X31-FO529 [mm] "BGA; 529 Balls; Body 31 x 31 mm; Pitch 1.27 mm"
height 3.5
pads (529):
  round 0.6 smd: A1(-13.97,13.97) A2(-12.7,13.97) A3(-11.43,13.97) A4(-10.16,13.97) A5(-8.89,13.97) A6(-7.62,13.97) A7(-6.35,13.97) A8(-5.08,13.97) A9(-3.81,13.97) A10(-2.54,13.97) A11(-1.27,13.97) A12(0,13.97) A13(1.27,13.97) A14(2.54,13.97) A15(3.81,13.97) A16(5.08,13.97) A17(6.35,13.97) A18(7.62,13.97) A19(8.89,13.97) A20(10.16,13.97) A21(11.43,13.97) A22(12.7,13.97) A23(13.97,13.97) AA1(-13.97,-11.43) AA2(-12.7,-11.43) AA3(-11.43,-11.43) AA4(-10.16,-11.43) AA5(-8.89,-11.43) AA6(-7.62,-11.43) AA7(-6.35,-11.43) AA8(-5.08,-11.43) AA9(-3.81,-11.43) AA10(-2.54,-11.43) AA11(-1.27,-11.43) AA12(0,-11.43) AA13(1.27,-11.43) AA14(2.54,-11.43) AA15(3.81,-11.43) AA16(5.08,-11.43) AA17(6.35,-11.43) AA18(7.62,-11.43) AA19(8.89,-11.43) AA20(10.16,-11.43) AA21(11.43,-11.43) AA22(12.7,-11.43) AA23(13.97,-11.43) AB1(-13.97,-12.7) AB2(-12.7,-12.7) AB3(-11.43,-12.7) AB4(-10.16,-12.7) AB5(-8.89,-12.7) AB6(-7.62,-12.7) AB7(-6.35,-12.7) AB8(-5.08,-12.7) AB9(-3.81,-12.7) AB10(-2.54,-12.7) AB11(-1.27,-12.7) AB12(0,-12.7) AB13(1.27,-12.7) AB14(2.54,-12.7) AB15(3.81,-12.7) AB16(5.08,-12.7) AB17(6.35,-12.7) AB18(7.62,-12.7) AB19(8.89,-12.7) AB20(10.16,-12.7) AB21(11.43,-12.7) AB22(12.7,-12.7) AB23(13.97,-12.7) AC1(-13.97,-13.97) AC2(-12.7,-13.97) AC3(-11.43,-13.97) AC4(-10.16,-13.97) AC5(-8.89,-13.97) AC6(-7.62,-13.97) AC7(-6.35,-13.97) AC8(-5.08,-13.97) AC9(-3.81,-13.97) AC10(-2.54,-13.97) AC11(-1.27,-13.97) AC12(0,-13.97) AC13(1.27,-13.97) AC14(2.54,-13.97) AC15(3.81,-13.97) AC16(5.08,-13.97) AC17(6.35,-13.97) AC18(7.62,-13.97) AC19(8.89,-13.97) AC20(10.16,-13.97) AC21(11.43,-13.97) AC22(12.7,-13.97) AC23(13.97,-13.97) B1(-13.97,12.7) B2(-12.7,12.7) B3(-11.43,12.7) B4(-10.16,12.7) B5(-8.89,12.7) B6(-7.62,12.7) B7(-6.35,12.7) B8(-5.08,12.7) B9(-3.81,12.7) B10(-2.54,12.7) B11(-1.27,12.7) B12(0,12.7) B13(1.27,12.7) B14(2.54,12.7) B15(3.81,12.7) B16(5.08,12.7) B17(6.35,12.7) B18(7.62,12.7) B19(8.89,12.7) B20(10.16,12.7) B21(11.43,12.7) B22(12.7,12.7) B23(13.97,12.7) C1(-13.97,11.43) C2(-12.7,11.43) C3(-11.43,11.43) C4(-10.16,11.43) C5(-8.89,11.43) C6(-7.62,11.43) C7(-6.35,11.43) C8(-5.08,11.43) C9(-3.81,11.43) C10(-2.54,11.43) C11(-1.27,11.43) C12(0,11.43) C13(1.27,11.43) C14(2.54,11.43) C15(3.81,11.43) C16(5.08,11.43) C17(6.35,11.43) C18(7.62,11.43) C19(8.89,11.43) C20(10.16,11.43) C21(11.43,11.43) C22(12.7,11.43) C23(13.97,11.43) D1(-13.97,10.16) D2(-12.7,10.16) D3(-11.43,10.16) D4(-10.16,10.16) D5(-8.89,10.16) D6(-7.62,10.16) D7(-6.35,10.16) D8(-5.08,10.16) D9(-3.81,10.16) D10(-2.54,10.16) D11(-1.27,10.16) D12(0,10.16) D13(1.27,10.16) D14(2.54,10.16) D15(3.81,10.16) D16(5.08,10.16) D17(6.35,10.16) D18(7.62,10.16) D19(8.89,10.16) D20(10.16,10.16) D21(11.43,10.16) D22(12.7,10.16) D23(13.97,10.16) E1(-13.97,8.89) E2(-12.7,8.89) E3(-11.43,8.89) E4(-10.16,8.89) E5(-8.89,8.89) E6(-7.62,8.89) E7(-6.35,8.89) E8(-5.08,8.89) E9(-3.81,8.89) E10(-2.54,8.89) E11(-1.27,8.89) E12(0,8.89) E13(1.27,8.89) E14(2.54,8.89) E15(3.81,8.89) E16(5.08,8.89) E17(6.35,8.89) E18(7.62,8.89) E19(8.89,8.89) E20(10.16,8.89) E21(11.43,8.89) E22(12.7,8.89) E23(13.97,8.89) F1(-13.97,7.62) F2(-12.7,7.62) F3(-11.43,7.62) F4(-10.16,7.62) F5(-8.89,7.62) F6(-7.62,7.62) F7(-6.35,7.62) F8(-5.08,7.62) F9(-3.81,7.62) F10(-2.54,7.62) F11(-1.27,7.62) F12(0,7.62) F13(1.27,7.62) F14(2.54,7.62) F15(3.81,7.62) F16(5.08,7.62) F17(6.35,7.62) F18(7.62,7.62) F19(8.89,7.62) F20(10.16,7.62) F21(11.43,7.62) F22(12.7,7.62) F23(13.97,7.62) G1(-13.97,6.35) G2(-12.7,6.35) G3(-11.43,6.35) G4(-10.16,6.35) G5(-8.89,6.35) G6(-7.62,6.35) G7(-6.35,6.35) G8(-5.08,6.35) G9(-3.81,6.35) G10(-2.54,6.35) G11(-1.27,6.35) G12(0,6.35) G13(1.27,6.35) G14(2.54,6.35) G15(3.81,6.35) G16(5.08,6.35) G17(6.35,6.35) G18(7.62,6.35) G19(8.89,6.35) G20(10.16,6.35) G21(11.43,6.35) G22(12.7,6.35) G23(13.97,6.35) H1(-13.97,5.08) H2(-12.7,5.08) H3(-11.43,5.08) H4(-10.16,5.08) H5(-8.89,5.08) H6(-7.62,5.08) H7(-6.35,5.08) H8(-5.08,5.08) H9(-3.81,5.08) H10(-2.54,5.08) H11(-1.27,5.08) H12(0,5.08) H13(1.27,5.08) H14(2.54,5.08) H15(3.81,5.08) H16(5.08,5.08) H17(6.35,5.08) H18(7.62,5.08) H19(8.89,5.08) H20(10.16,5.08) H21(11.43,5.08) H22(12.7,5.08) H23(13.97,5.08) J1(-13.97,3.81) J2(-12.7,3.81) J3(-11.43,3.81) J4(-10.16,3.81) J5(-8.89,3.81) J6(-7.62,3.81) J7(-6.35,3.81) J8(-5.08,3.81) J9(-3.81,3.81) J10(-2.54,3.81) J11(-1.27,3.81) J12(0,3.81) J13(1.27,3.81) J14(2.54,3.81) J15(3.81,3.81) J16(5.08,3.81) J17(6.35,3.81) J18(7.62,3.81) J19(8.89,3.81) J20(10.16,3.81) J21(11.43,3.81) J22(12.7,3.81) J23(13.97,3.81) K1(-13.97,2.54) K2(-12.7,2.54) K3(-11.43,2.54) K4(-10.16,2.54) K5(-8.89,2.54) K6(-7.62,2.54) K7(-6.35,2.54) K8(-5.08,2.54) K9(-3.81,2.54) K10(-2.54,2.54) K11(-1.27,2.54) K12(0,2.54) K13(1.27,2.54) K14(2.54,2.54) K15(3.81,2.54) K16(5.08,2.54) K17(6.35,2.54) K18(7.62,2.54) K19(8.89,2.54) K20(10.16,2.54) K21(11.43,2.54) K22(12.7,2.54) K23(13.97,2.54) L1(-13.97,1.27) L2(-12.7,1.27) L3(-11.43,1.27) L4(-10.16,1.27) L5(-8.89,1.27) L6(-7.62,1.27) L7(-6.35,1.27) L8(-5.08,1.27) L9(-3.81,1.27) L10(-2.54,1.27) L11(-1.27,1.27) L12(0,1.27) L13(1.27,1.27) L14(2.54,1.27) L15(3.81,1.27) L16(5.08,1.27) L17(6.35,1.27) L18(7.62,1.27) L19(8.89,1.27) L20(10.16,1.27) L21(11.43,1.27) L22(12.7,1.27) L23(13.97,1.27) M1(-13.97,0) M2(-12.7,0) M3(-11.43,0) M4(-10.16,0) M5(-8.89,0) M6(-7.62,0) M7(-6.35,0) M8(-5.08,0) M9(-3.81,0) M10(-2.54,0) M11(-1.27,0) M12(0,0) M13(1.27,0) M14(2.54,0) M15(3.81,0) M16(5.08,0) M17(6.35,0) M18(7.62,0) M19(8.89,0) M20(10.16,0) M21(11.43,0) M22(12.7,0) M23(13.97,0) N1(-13.97,-1.27) N2(-12.7,-1.27) N3(-11.43,-1.27) N4(-10.16,-1.27) N5(-8.89,-1.27) N6(-7.62,-1.27) N7(-6.35,-1.27) N8(-5.08,-1.27) N9(-3.81,-1.27) N10(-2.54,-1.27) N11(-1.27,-1.27) N12(0,-1.27) N13(1.27,-1.27) N14(2.54,-1.27) N15(3.81,-1.27) N16(5.08,-1.27) N17(6.35,-1.27) N18(7.62,-1.27) N19(8.89,-1.27) N20(10.16,-1.27) N21(11.43,-1.27) N22(12.7,-1.27) N23(13.97,-1.27) P1(-13.97,-2.54) P2(-12.7,-2.54) P3(-11.43,-2.54) P4(-10.16,-2.54) P5(-8.89,-2.54) P6(-7.62,-2.54) P7(-6.35,-2.54) P8(-5.08,-2.54) P9(-3.81,-2.54) P10(-2.54,-2.54) P11(-1.27,-2.54) P12(0,-2.54) P13(1.27,-2.54) P14(2.54,-2.54) P15(3.81,-2.54) P16(5.08,-2.54) P17(6.35,-2.54) P18(7.62,-2.54) P19(8.89,-2.54) P20(10.16,-2.54) P21(11.43,-2.54) P22(12.7,-2.54) P23(13.97,-2.54) R1(-13.97,-3.81) R2(-12.7,-3.81) R3(-11.43,-3.81) R4(-10.16,-3.81) R5(-8.89,-3.81) R6(-7.62,-3.81) R7(-6.35,-3.81) R8(-5.08,-3.81) R9(-3.81,-3.81) R10(-2.54,-3.81) R11(-1.27,-3.81) R12(0,-3.81) R13(1.27,-3.81) R14(2.54,-3.81) R15(3.81,-3.81) R16(5.08,-3.81) R17(6.35,-3.81) R18(7.62,-3.81) R19(8.89,-3.81) R20(10.16,-3.81) R21(11.43,-3.81) R22(12.7,-3.81) R23(13.97,-3.81) T1(-13.97,-5.08) T2(-12.7,-5.08) T3(-11.43,-5.08) T4(-10.16,-5.08) T5(-8.89,-5.08) T6(-7.62,-5.08) T7(-6.35,-5.08) T8(-5.08,-5.08) T9(-3.81,-5.08) T10(-2.54,-5.08) T11(-1.27,-5.08) T12(0,-5.08) T13(1.27,-5.08) T14(2.54,-5.08) T15(3.81,-5.08) T16(5.08,-5.08) T17(6.35,-5.08) T18(7.62,-5.08) T19(8.89,-5.08) T20(10.16,-5.08) T21(11.43,-5.08) T22(12.7,-5.08) T23(13.97,-5.08) U1(-13.97,-6.35) U2(-12.7,-6.35) U3(-11.43,-6.35) U4(-10.16,-6.35) U5(-8.89,-6.35) U6(-7.62,-6.35) U7(-6.35,-6.35) U8(-5.08,-6.35) U9(-3.81,-6.35) U10(-2.54,-6.35) U11(-1.27,-6.35) U12(0,-6.35) U13(1.27,-6.35) U14(2.54,-6.35) U15(3.81,-6.35) U16(5.08,-6.35) U17(6.35,-6.35) U18(7.62,-6.35) U19(8.89,-6.35) U20(10.16,-6.35) U21(11.43,-6.35) U22(12.7,-6.35) U23(13.97,-6.35) V1(-13.97,-7.62) V2(-12.7,-7.62) V3(-11.43,-7.62) V4(-10.16,-7.62) V5(-8.89,-7.62) V6(-7.62,-7.62) V7(-6.35,-7.62) V8(-5.08,-7.62) V9(-3.81,-7.62) V10(-2.54,-7.62) V11(-1.27,-7.62) V12(0,-7.62) V13(1.27,-7.62) V14(2.54,-7.62) V15(3.81,-7.62) V16(5.08,-7.62) V17(6.35,-7.62) V18(7.62,-7.62) V19(8.89,-7.62) V20(10.16,-7.62) V21(11.43,-7.62) V22(12.7,-7.62) V23(13.97,-7.62) W1(-13.97,-8.89) W2(-12.7,-8.89) W3(-11.43,-8.89) W4(-10.16,-8.89) W5(-8.89,-8.89) W6(-7.62,-8.89) W7(-6.35,-8.89) W8(-5.08,-8.89) W9(-3.81,-8.89) W10(-2.54,-8.89) W11(-1.27,-8.89) W12(0,-8.89) W13(1.27,-8.89) W14(2.54,-8.89) W15(3.81,-8.89) W16(5.08,-8.89) W17(6.35,-8.89) W18(7.62,-8.89) W19(8.89,-8.89) W20(10.16,-8.89) W21(11.43,-8.89) W22(12.7,-8.89) W23(13.97,-8.89) Y1(-13.97,-10.16) Y2(-12.7,-10.16) Y3(-11.43,-10.16) Y4(-10.16,-10.16) Y5(-8.89,-10.16) Y6(-7.62,-10.16) Y7(-6.35,-10.16) Y8(-5.08,-10.16) Y9(-3.81,-10.16) Y10(-2.54,-10.16) Y11(-1.27,-10.16) Y12(0,-10.16) Y13(1.27,-10.16) Y14(2.54,-10.16) Y15(3.81,-10.16) Y16(5.08,-10.16) Y17(6.35,-10.16) Y18(7.62,-10.16) Y19(8.89,-10.16) Y20(10.16,-10.16) Y21(11.43,-10.16) Y22(12.7,-10.16) Y23(13.97,-10.16)
Top Overlay:
  circle w0.25: c-16.15,13.97 r0.125
  lines w0.2: -15.495,-14.505 -14.495,-15.505 14.505,-15.505 15.505,-14.505 15.505,14.495 14.505,15.495 -15.495,15.495 -15.495,-14.505